# Altium footprint library SMD Library.PcbLib: 53 footprints (part 4 of 4)
Each footprint in its own frame and in the unit in brackets; x right, y up, seen from the top. Pads: shape width x height; smd on the part's side, far side on the other; paste and mask are expansions set on the pad; w line width, h text height; cw(c..) or ccw(c..) is an arc to the next point about the centre after c.
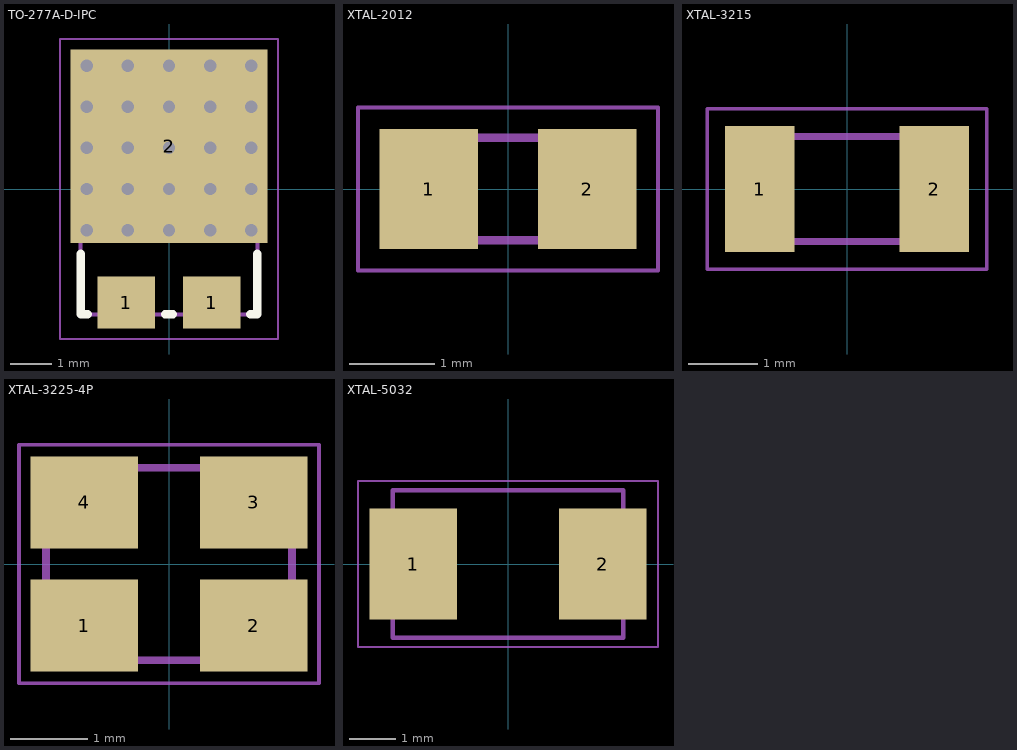
[diagram p3: the footprints below, top view; thin cyan lines are the x and y axes]

## TO-277A-D-IPC [mm] "Molded Diode, 3-Leads, Body 6.10x4.30mm, IPC Medium Density"
height 1.2
pads (3):
  rect 1.4x1.27 smd: 1(-1.04,-2.765) 1(1.04,-2.765)
  rect 4.8x4.72 smd: 2(0,1.04)
via -1,3 diameter 0.6 hole 0.3
via -2,3 diameter 0.6 hole 0.3
via 0,3 diameter 0.6 hole 0.3
via 1,3 diameter 0.6 hole 0.3
via 2,3 diameter 0.6 hole 0.3
via -1,2 diameter 0.6 hole 0.3
via -2,2 diameter 0.6 hole 0.3
via 0,2 diameter 0.6 hole 0.3
via 1,2 diameter 0.6 hole 0.3
via 2,2 diameter 0.6 hole 0.3
via -1,1 diameter 0.6 hole 0.3
via -2,1 diameter 0.6 hole 0.3
via 0,1 diameter 0.6 hole 0.3
via 1,1 diameter 0.6 hole 0.3
via 2,1 diameter 0.6 hole 0.3
via -1,0 diameter 0.6 hole 0.3
via -2,0 diameter 0.6 hole 0.3
via 0,0 diameter 0.6 hole 0.3
via 1,0 diameter 0.6 hole 0.3
via 2,0 diameter 0.6 hole 0.3
via 2,-1 diameter 0.6 hole 0.3
via 1,-1 diameter 0.6 hole 0.3
via 0,-1 diameter 0.6 hole 0.3
via -2,-1 diameter 0.6 hole 0.3
via -1,-1 diameter 0.6 hole 0.3
Top Overlay:
  lines w0.2: -2.15,-1.575 -2.15,-3.05 -1.975,-3.05 ; -0.1,-3.05 0.1,-3.05 ; 1.975,-3.05 2.15,-3.05 2.15,-1.575
Mechanical 13:
  lines w0.1: 2.15,-3.05 -2.15,-3.05 -2.15,3.05 2.15,3.05 2.15,-3.025
Mechanical 15:
  lines w0.05: -2.65,-3.65 2.65,-3.65 2.65,3.65 -2.65,3.65 -2.65,-3.65
3D body: height 1.2, standoff 0, extent -2.15,-3.05 2.15,3.05

## XTAL-2012 [mm] "Passive Crystal, 2-Leads, Body 2.0x1.2mm, SMD"
height 0.6
pads (2):
  rect 1.15x1.4 smd: 1(-0.925,0) 2(0.925,0)
Mechanical 13:
  lines w0.1: -1,-0.6 1,-0.6 1,0.6 -1,0.6 -1,-0.6
Mechanical 15:
  lines w0.05: -1.75,-0.95 1.75,-0.95 1.75,0.95 -1.75,0.95 -1.75,-0.95
3D body: height 0.6, standoff 0, extent -1,-0.6 1,0.6

## XTAL-3215 [mm] "Passive Crystal, 2-Leads, Body 3.2x1.5mm, SMD"
height 0.8
pads (2):
  rect 1x1.8 smd: 1(-1.25,0) 2(1.25,0)
Mechanical 13:
  lines w0.1: -1.6,-0.75 -1.6,0.75 1.6,0.75 1.6,-0.75 -1.6,-0.75
Mechanical 15:
  lines w0.05: -2,-1.15 -2,1.15 2,1.15 2,-1.15 -2,-1.15
3D body: height 0.8, standoff 0, extent -1.6,-0.75 1.6,0.75

## XTAL-3225-4P [mm] "Passive Crystal, 4-Leads, Body 3.2x2.5mm, SMD"
height 0.7
pads (4):
  rect 1.4x1.2 smd mask+0.05: 1(-1.1,-0.8) 2(1.1,-0.8) 3(1.1,0.8) 4(-1.1,0.8)
Mechanical 13:
  lines w0.1: -1.6,-1.25 1.6,-1.25 1.6,1.25 -1.6,1.25 -1.6,-1.25
Mechanical 15:
  lines w0.05: -1.95,-1.55 1.95,-1.55 1.95,1.55 -1.95,1.55 -1.95,-1.55
3D body: height 0.7, standoff 0, extent -1.6,-1.25 1.6,1.25

## XTAL-5032 [mm] "Passive Crystal, 2-Leads, Body 5.0x3.2mm, SMD"
height 1.3
pads (2):
  rect 1.9x2.4 smd: 1(-2.05,0) 2(2.05,0)
Mechanical 13:
  lines w0.1: -2.5,-1.6 2.5,-1.6 2.5,1.6 -2.5,1.6 -2.5,-1.6
Mechanical 15:
  lines w0.05: -3.25,-1.8 3.25,-1.8 3.25,1.8 -3.25,1.8 -3.25,-1.8
3D body: height 1.3, standoff 0, extent -2.5,-1.6 2.5,1.6